# EAGLE library part RGB_LED (library msut_zadaca3)
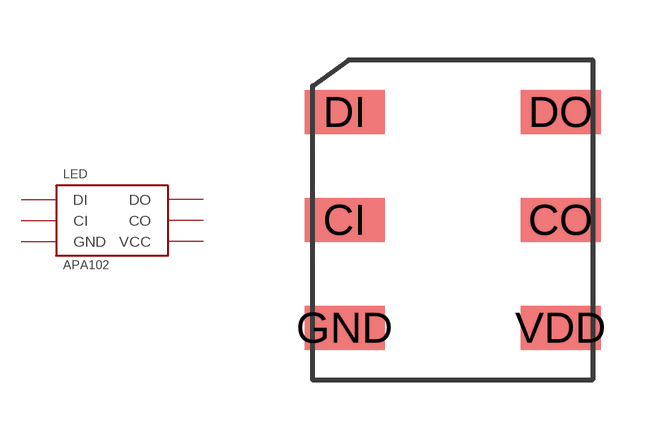
[diagram p4: symbol with the pads of TAPE&REEL_LED; footprint TAPE&REEL_LED]

Designator prefix LED

## RGB_LED  [TAPE&REEL_LED]
CI  CI
CO  CO
DI  DI
DO  DO
GND  GND
VDD  VCC

## Footprint TAPE&REEL_LED (pad centres in mm)
smd 2 x 1.1: CI -2.7,0; CO 2.7,0; DI -2.7,2.7; DO 2.7,2.7; GND -2.7,-2.7; VDD 2.7,-2.7